# EAGLE library part TA1914A (library SeniorDesign)
TA1914A - 440MHz SAW Filter Technical Specifications: Max RF Power: 10dBm Operating Temperature: -30°C to 60°C Insertion Loss: 2dB Passband: 420-446 MHz
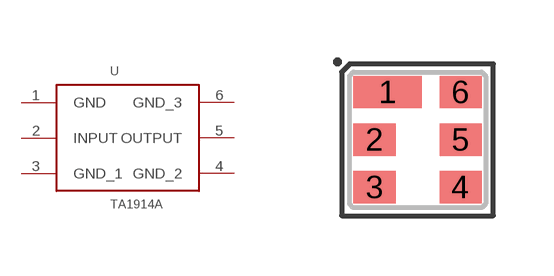
[diagram p3: symbol with the pads of TA1914A; footprint TA1914A]

Designator prefix -

## TA1914A  [TA1914A]
1  GND
2  INPUT
3  GND_1
4  GND_2
5  OUTPUT
6  GND_3

## Footprint TA1914A (pad centres in mm)
smd 1.7 x 0.81: 1 -0.75,1.195
smd 1.05 x 0.81: 2 -1.075,0.005; 3 -1.075,-1.185; 4 1.075,-1.185; 5 1.075,0.005; 6 1.075,1.195